# Altium integrated library Microchip Power Mgt PWM Controller.IntLib: 36 symbols (part 2 of 2)
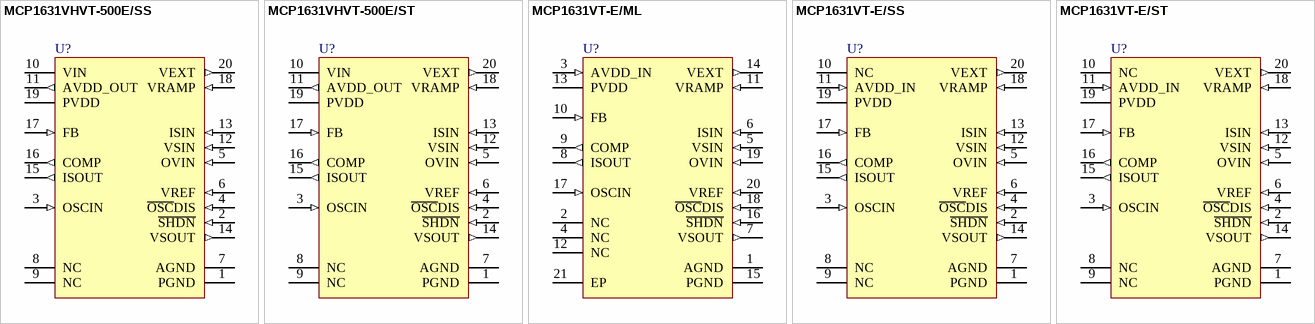
[diagram p2: symbols MCP1631VHVT-500E/SS to MCP1631VT-E/ST]

## MCP1631VT-E/ST
designator U?
High-Speed, PWM, 2MHz, Voltage Mode Control, 20-Pin TSSOP, Extended Temperature, Tape and Reel; Published: 29-Jan-2009; LatestRevisionDate: 27-Nov-2009; LatestRevisionNote: Updated to datasheet revision B, Oct-2008; DatasheetVersion: revB, Oct-2008; PackageVersion: revBB, Aug-2009; PackageReference: TSSOP-ST20; Publisher: Altium Limited; PackageDescription: 20-Lead Plastic Thin Shrink Small Outline (ST) - 4.4mm Body [TSSOP]; Supplier 1: Digi-Key; Supplier Part Number 1: MCP1631VT-E/STTR-ND; Code_JEDEC: MO-153-AC; ComponentLink1Description: Datasheet; ComponentLink1URL: http://ww1.microchip.com/downloads/en/DeviceDoc/22063b.pdf; ComponentLink2Description: Packaging Specification; ComponentLink2URL: http://www.microchip.com/stellent/groups/techpub_sg/documents/packagingspec/en012702.pdf; ComponentLink3Description: Microchip.com Home; ComponentLink3URL: http://www.microchip.com/
footprint TSSOP-ST20_N (TSOP, 20-Leads, Body 6.5x4.4mm, Pitch 0.65mm, IPC Medium Density)
footprint TSSOP-ST20_L (TSOP, 20-Leads, Body 6.5x4.4mm, Pitch 0.65mm, IPC High Density)
footprint TSSOP-ST20_M (TSOP, 20-Leads, Body 6.5x4.4mm, Pitch 0.65mm, IPC Low Density)
pins: 1 PGND (power), 2 ~{SHDN} (in), 3 OSCIN (in), 4 ~{OSC}DIS (in), 5 OVIN (in), 6 VREF (in), 7 AGND (power), 8 NC, 9 NC, 10 NC, 11 AVDD_IN (in), 12 VSIN (in), 13 ISIN (in), 14 VSOUT (out), 15 ISOUT (out), 16 COMP (out), 17 FB (in), 18 VRAMP (in), 19 PVDD (power), 20 VEXT (out)